# EAGLE library part TPS54140ADGQR (library TPS54140ADGQR)
3.5V to 42V Input, 1.5A Step-Down Converter with Eco-Mode Source: Datasheet <http://www.ti.com/lit/gpn/tps54140a>
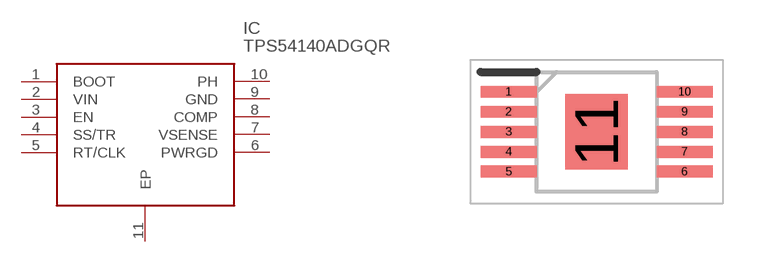
[diagram p0: symbol with the pads of SOP50P490X110-11N; footprint SOP50P490X110-11N]

Designator prefix IC

## TPS54140ADGQR (Arrow_Part_Number: TPS54140ADGQR; Arrow_Price-Stock: https://www.arrow.com/en/products/tps54140adgqr/texas-instruments; Description: 3.5V to 42V Input, 1.5A Step-Down Converter with Eco-Mode; Height: 1.1mm; Manufacturer_Name: Texas Instruments; Manufacturer_Part_Number: TPS54140ADGQR; Mouser_Part_Number: 595-TPS54140ADGQR; Mouser_Price-Stock: https://www.mouser.co.uk/ProductDetail/Texas-Instruments/TPS54140ADGQR?qs=Zv8nmyeoaKsySNAnFweR3g%3D%3D)  [SOP50P490X110-11N]
1  BOOT
2  VIN
3  EN
4  SS/TR
5  RT/CLK
6  PWRGD
7  VSENSE
8  COMP
9  GND
10  PH
11  EP

## Footprint SOP50P490X110-11N (pad centres in mm)
DGS (S-PDSO-G10)-
smd 1.4 x 0.3: 1 -2.2,1; 2 -2.2,0.5; 3 -2.2,0; 4 -2.2,-0.5; 5 -2.2,-1; 6 2.2,-1; 7 2.2,-0.5; 8 2.2,0; 9 2.2,0.5; 10 2.2,1
smd 1.57 x 1.88: 11 0,0